# Altium integrated library SN65HVD230DR.IntLib: 1 symbol
Pins are listed as number, name and electrical type; pins without a type are passive.

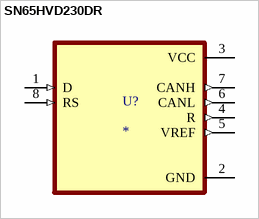
[diagram p0: symbol SN65HVD230DR]

## SN65HVD230DR
designator U?
3.3 V CAN Transceiver with Standby Mode; MF: Texas Instruments; MP: SN65HVD230DR; Availability: In Stock; SnapEDA_Link: https://www.snapeda.com/parts/SN65HVD230DR/Texas+Instruments/view-part/?ref=snap; Price: None; Check_prices: https://www.snapeda.com/parts/SN65HVD230DR/Texas+Instruments/view-part/?ref=eda; Package: SOIC-8 Texas Instruments; Value: *; Purchase-URL: https://pricing.snapeda.com/search/part/SN65HVD230DR/?ref=eda
footprint SOIC127P599X175-8N
pins: 1 D (in), 2 GND (power), 3 VCC (power), 4 R (out), 5 VREF (out), 6 CANL (out), 7 CANH (out), 8 RS (in)